# EAGLE library part 74LVC2G157 (library yapo)
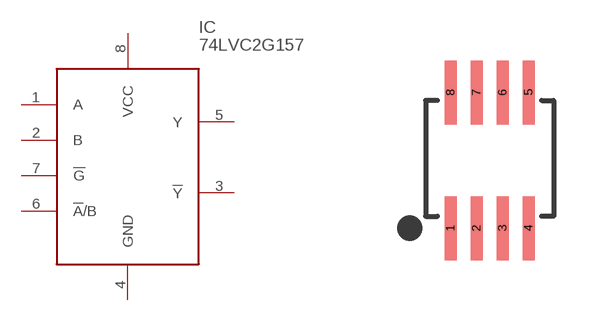
[diagram p51: symbol with the pads of SSOP8; footprint SSOP8]

Designator prefix IC

## 74LVC2G157  [SSOP8]
1  A
2  B
3  !Y!
4  GND
5  Y
6  !A!/B
7  !G!
8  VCC

## Footprint SSOP8 (pad centres in mm)
smd 0.3 x 1.6: 1 -0.975,-1.7; 2 -0.325,-1.7; 3 0.325,-1.7; 4 0.975,-1.7; 5 0.975,1.7; 6 0.325,1.7; 7 -0.325,1.7; 8 -0.975,1.7